# EAGLE library part CD4066B (library GameCube)
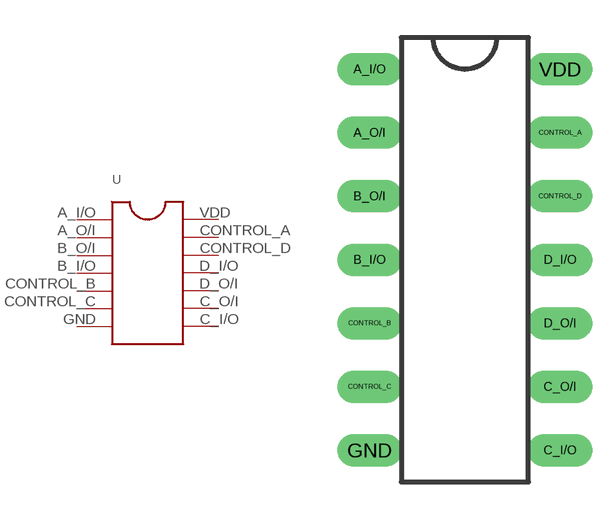
[diagram p2: symbol with the pads of CD4066B; footprint CD4066B]

Designator prefix -

## CD4066B  [CD4066B]
A_I/O  P$1
A_O/I  P$2
B_I/O  P$4
B_O/I  P$3
C_I/O  P$8
C_O/I  P$9
CONTROL_A  P$13
CONTROL_B  P$5
CONTROL_C  P$6
CONTROL_D  P$12
D_I/O  P$11
D_O/I  P$10
GND  P$7
VDD  P$14

## Footprint CD4066B (pad centres in mm)
drill 0.8 long: A_I/O -3.81,7.62; A_O/I -3.81,5.08; B_I/O -3.81,0; B_O/I -3.81,2.54; C_I/O 3.81,-7.62; C_O/I 3.81,-5.08; CONTROL_A 3.81,5.08; CONTROL_B -3.81,-2.54; CONTROL_C -3.81,-5.08; CONTROL_D 3.81,2.54; D_I/O 3.81,0; D_O/I 3.81,-2.54; GND -3.81,-7.62; VDD 3.81,7.62